# Altium schematic symbol library CN_2x3P.SchLib: 1 symbol
Pins are listed as number, name and electrical type; pins without a type are passive.

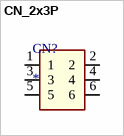
[diagram p0: symbol CN_2x3P]

## CN_2x3P
designator CN?
pins: 1, 2, 3, 4, 5, 6